# EAGLE library part SN74LVC125A (library LogicICs)
SN74LVC125A Quad Tri-State Buffer
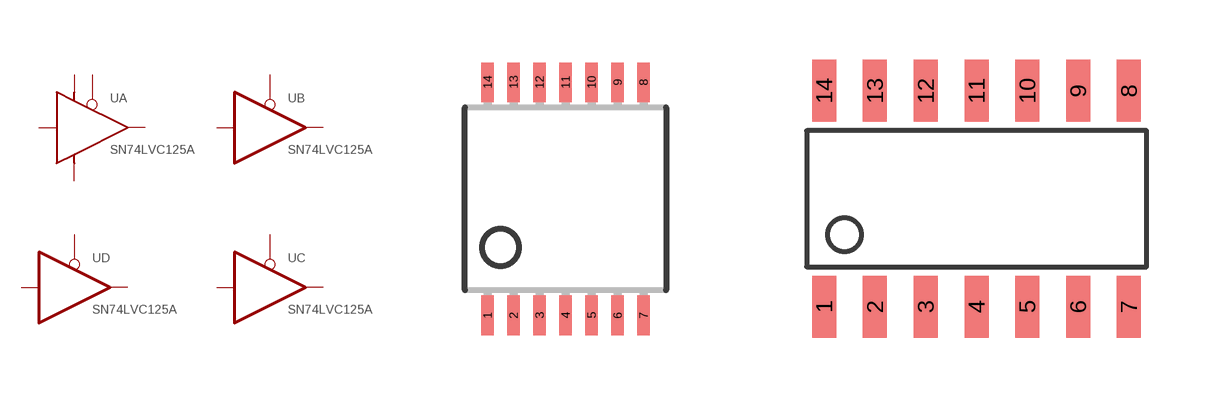
[diagram p2: symbol with the pads of 14-TSSOP; footprints 14-TSSOP, 14-SOIC]

Designator prefix U; gates A=TRI_STATE_PWR B=TRI_STATE C=TRI_STATE D=TRI_STATE

## SN74LVC125ATSSOP  [14-TSSOP]
1  A:!OE  in
2  A:IN  in
3  A:OUT  out
4  B:!OE  in
5  B:IN  in
6  B:OUT  out
7  A:GND  pwr
8  C:OUT  out
9  C:IN  in
10  C:!OE  in
11  D:OUT  out
12  D:IN  in
13  D:!OE  in
14  A:VCC  pwr

## SN74LVC125ASOIC  [14-SOIC]
Pads as for 14-TSSOP

## Footprint 14-TSSOP (pad centres in mm)
14 Pin TSSOP Package
smd 0.305 x 0.991: 1 -1.95,-2.918; 2 -1.3,-2.918; 3 -0.65,-2.918; 4 0,-2.918; 5 0.65,-2.918; 6 1.3,-2.918; 7 1.95,-2.918; 8 1.95,2.918; 9 1.3,2.918; 10 0.65,2.918; 11 0,2.918; 12 -0.65,2.918; 13 -1.3,2.918; 14 -1.95,2.918

## Footprint 14-SOIC (pad centres in mm)
SOIC-14 Package
smd 0.6 x 1.55: 1 -3.81,-2.7; 2 -2.54,-2.7; 3 -1.27,-2.7; 4 0,-2.7; 5 1.27,-2.7; 6 2.54,-2.7; 7 3.81,-2.7; 8 3.81,2.7; 9 2.54,2.7; 10 1.27,2.7; 11 0,2.7; 12 -1.27,2.7; 13 -2.54,2.7; 14 -3.81,2.7